# Altium schematic symbol library Optocoupler.SchLib: 7 symbols
Pins are listed as number, name and electrical type; pins without a type are passive.

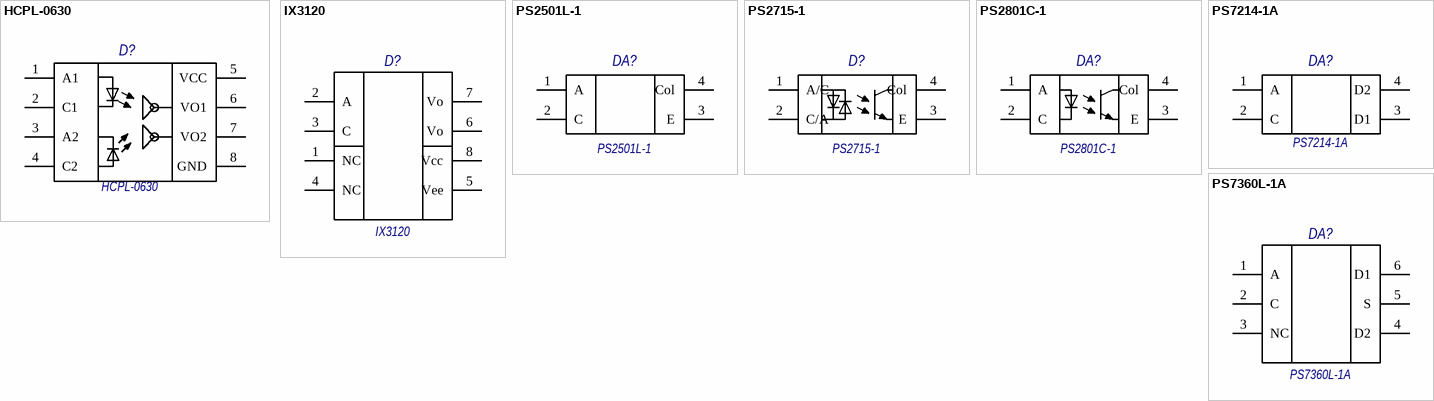
[diagram p0: symbols HCPL-0630 to PS7360L-1A]

## HCPL-0630
designator D?  Type: HCPL-0630  (hidden comment: *)
footprint SO-8
pins: 1 A1, 2 C1, 3 A2, 4 C2 (power), 5 VCC, 6 VO1, 7 VO2, 8 GND

## IX3120
designator D?  Type: IX3120  (hidden comment: *)
footprint SMD-8
pins: 1 NC, 2 A, 3 C, 4 NC, 5 Vee, 6 Vo, 7 Vo, 8 Vcc

## PS2501L-1
designator DA?  Type: PS2501L-1  (hidden comment: *)
footprint DIP-SMD-4
pins: 1 A, 2 C, 3 E, 4 Col

## PS2715-1
designator D?  Type: PS2715-1  (hidden comment: *)
footprint SOP-4
pins: 1 A/C, 2 C/A, 3 E, 4 Col

## PS2801C-1
designator DA?  Type: PS2801C-1  (hidden comment: *)
footprint SSOP-4N (SOP, 4-Leads, Body 2,70x4,40mm, Pitch 1,27mm, IPC Medium Density)
pins: 1 A, 2 C, 3 E, 4 Col

## PS7214-1A
designator DA?  Type: PS7214-1A  (hidden comment: *)
footprint SOP-4
pins: 1 A, 2 C, 3 D1, 4 D2

## PS7360L-1A
designator DA?  Type: PS7360L-1A  (hidden comment: *)
footprint DIP-SMD-6
pins: 1 A, 2 C, 3 NC, 4 D2, 5 S, 6 D1